# EAGLE library part G6H2-100 (library relay-mod)
RELAY 2 x switch, 0.5 A/125 V AC, 1 A/30 V DC, Omron
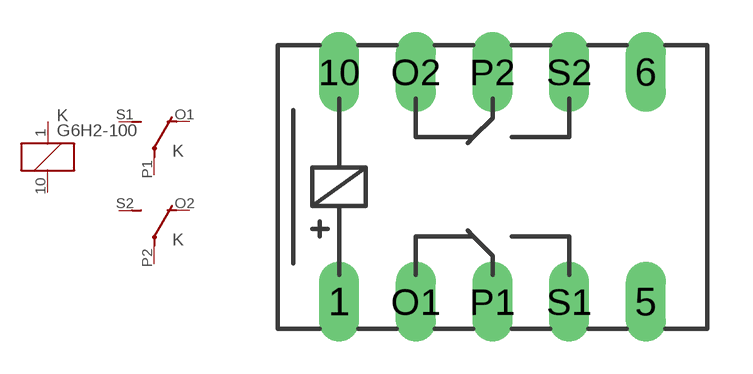
[diagram p9: symbol with the pads of G6H2-100; footprint G6H2-100]

Designator prefix K; gates 1=K 2=U 3=U

## G6H2-100 (OC_FARNELL: unknown; OC_NEWARK: unknown)  [G6H2-100]
1  1:1  pas
10  1:2  pas
O1  2:O  pas
O2  3:O  pas
P1  2:P  pas
P2  3:P  pas
S1  2:S  pas
S2  3:S  pas

## Footprint G6H2-100 (pad centres in mm)
RELAY 2 x switch 0.5 A/125 V AC, 1 A/30 V DC, Omron
drill 0.813 long: 1 -5.08,-3.81; 5 5.08,-3.81; 6 5.08,3.81; 10 -5.08,3.81; O1 -2.54,-3.81; O2 -2.54,3.81; P1 0,-3.81; P2 0,3.81; S1 2.54,-3.81; S2 2.54,3.81